# EAGLE library part U-TI-TPS63060DCT-BUCKBOOST (library U-TI-TPS63060DSCT-buck-boost)
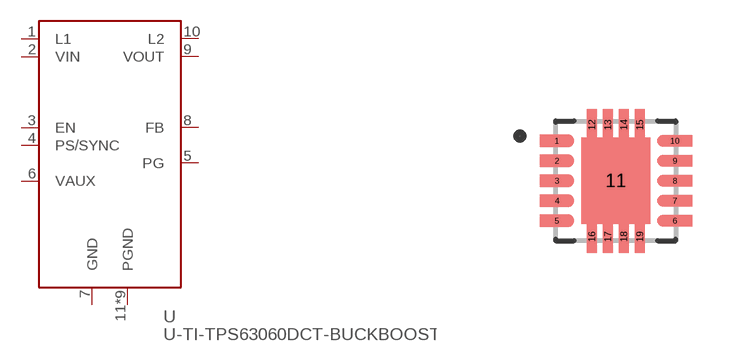
[diagram p0: symbol with the pads of CONV_TPS63060DSCT; footprint CONV_TPS63060DSCT]

Designator prefix -

## U-TI-TPS63060DCT-BUCKBOOST  [CONV_TPS63060DSCT]
1  L1  pas
2  VIN  pwr
3  EN  in
4  PS/SYNC  in
5  PG  oc
6  VAUX  out
7  GND  pwr
8  FB  pas
9  VOUT  pwr
10  L2  pas
11  PGND  pwr
12  PGND  pwr
13  PGND  pwr
14  PGND  pwr
15  PGND  pwr
16  PGND  pwr
17  PGND  pwr
18  PGND  pwr
19  PGND  pwr

## Footprint CONV_TPS63060DSCT (pad centres in mm)
smd 0.5 x 0.2: 1 -1.475,1; 2 -1.475,0.5; 3 -1.475,0; 4 -1.475,-0.5; 5 -1.475,-1; 6 1.475,-1; 7 1.475,-0.5; 8 1.475,0; 9 1.475,0.5; 10 1.475,1
smd 0.5 x 0.5: 11 0,0
smd 0.254 x 0.8: 12 -0.6,1.4; 13 -0.2,1.4; 14 0.2,1.4; 15 0.6,1.4; 16 -0.6,-1.4; 17 -0.2,-1.4; 18 0.2,-1.4; 19 0.6,-1.4